# EAGLE library part UPDI (library UPDI_interface)
Programming Header for UPDI (see e.g. Datasheet 4.4 <https://ww1.microchip.com/downloads/en/DeviceDoc/ATtiny424-426-427-824-826-827-DataSheet-DS40002311A.pdf>
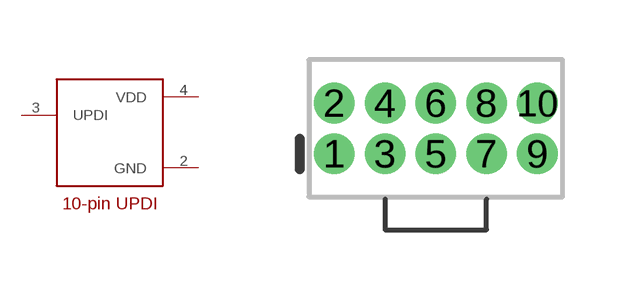
[diagram p0: symbol with the pads of 2X5-PTH-1.27MM; footprint 2X5-PTH-1.27MM]

Designator prefix -

## UPDI  [2X5-PTH-1.27MM]
1  NC0  nc
2  GND  pwr
3  UPDI
4  VDD  pwr
5  NC1  nc
6  NC4  nc
7  NC2  nc
8  NC5  nc
9  NC3  nc
10  NC6  nc

## Footprint 2X5-PTH-1.27MM (pad centres in mm)
Plated Through Hole - 2x5 ARM Cortex Debug Connector (10-pin) tDoc (51) layer border represents maximum dimensions of plastic housing. Specifications: Pin count:10 Pin pitch:1.27mm Datasheet referenced for footprint <http://portal.fciconnect.com/Comergent//fci/drawing/20021111.pdf> Example device(s): CONN_05x2
drill 0.508 pad 1: 1 -2.54,-0.635; 2 -2.54,0.635; 3 -1.27,-0.635; 4 -1.27,0.635; 5 0,-0.635; 6 0,0.635; 7 1.27,-0.635; 8 1.27,0.635; 9 2.54,-0.635; 10 2.54,0.635